# Altium schematic symbol library TLV3501.SchLib: 1 symbol
Pins are listed as number, name and electrical type; pins without a type are passive.

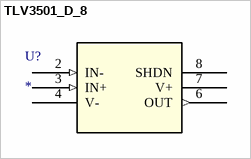
[diagram p0: symbol TLV3501_D_8]

## TLV3501_D_8
designator U?
4.5-ns, Rail-to-Rail, High-Speed Comparator in Microsize Packages; Manufacturer_Part_Number: tlv3501_d_8; GENERIC_PART_NUMBER: TLV3501; Vendor: Texas Instruments; PACKAGE_DESIGNATOR: D; PIN_COUNT: 8; INDUSTRY_STD_PKG_TYPE: SOIC; FAMILY_NAME: COMPARATOR; Datasheet URL: http://www.ti.com/lit/gpn/TLV3501; Manufacturer: Texas Instruments; RefDes: RefDes; Type: DEV; Value: Value
footprint D8
pins: 2 IN- (in), 3 IN+ (in), 4 V- (power), 6 OUT (out), 7 V+ (power), 8 SHDN